# Altium schematic symbol library rcl_SMD.SchLib: 15 symbols
Pins are listed as number, name and electrical type; pins without a type are passive.

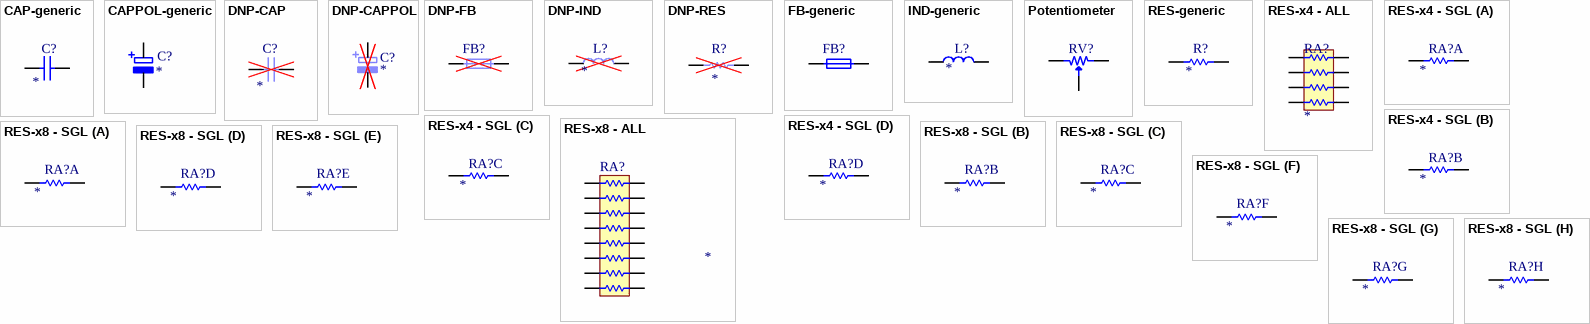
[diagram p0: symbols CAP-generic to RES-x8 - SGL]

## CAP-generic
designator C?
Chip Ceramic Capacitor SMD; Populated: Yes; Value: *; Manuf1: *; Manuf2: *; Manuf1Partnumber: *; Manuf2Partnumber: *; ClassName: *; ROHS: Yes; LifeCycle: Checked; HelpURL: *; Voltage: *
footprint CAPC1005X03N[0402] (Chip Resistor, 2-Leads, Body 1,00x0,50mm, IPC Medium Density)
footprint CAPC1608X05N[0603] (Chip Resistor, 2-Leads, Body 1,60x0,80mm, IPC Medium Density)
footprint CAPC2012X05N[0805] (Chip Resistor, 2-Leads, Body 2,00x1,25mm, IPC Medium Density)
footprint CAPC3216X06N[1206] (Chip Resistor, 2-Leads, Body 3,10x1,60mm, IPC Medium Density)
footprint CAPC3225X06N[1210] (Chip Resistor, 2-Leads, Body 3,10x2,60mm, IPC Medium Density)
footprint CAPC4532X06N[1812] (Chip Resistor, 2-Leads, Body 4,50x3,20mm, IPC Medium Density)
footprint 1812X7R
footprint C0201
footprint C0201_2
footprint C0402_2
footprint C0603_2
pins: 1, 2

## CAPPOL-generic
designator C?
Polarized Capacitor SMD; Populated: Yes; Value: *; Manuf1: *; Manuf2: *; Manuf1Partnumber: *; Manuf2Partnumber: *; ClassName: *; ROHS: Yes; LifeCycle: Checked; HelpURL: *; Voltage: *
footprint 140CLH-0810
footprint 140CLH-1010
footprint 140CLH-1014
footprint 150CLZ-0810
footprint 150CLZ-1010
footprint 150CLZ-1014
footprint 153CLV-0405
footprint 153CLV-0505
footprint 153CLV-0605
footprint 153CLV-0807
footprint 153CLV-0810
footprint 153CLV-1010
footprint 153CLV-1012
footprint 153CLV-1014
footprint 175TMP-0808
footprint 175TMP-0810
footprint A/3216-18R
footprint A/3216-18W
footprint B/3528-21R
footprint B/3528-21W
footprint C/6032-28R
footprint C/6032-28W
footprint CT3216
footprint CT3528
footprint CT6032
footprint CT7343
footprint D/7343-31R
footprint D/7343-31W
footprint E/7260-38R
footprint E/7260-38W
footprint PANASONIC_A
footprint PANASONIC_B
footprint PANASONIC_C
footprint PANASONIC_D
footprint PANASONIC_E
footprint PANASONIC_F
footprint PANASONIC_G
footprint SANYO-OSCON_SMD_A5
footprint SANYO-OSCON_SMD_B6
footprint SANYO-OSCON_SMD_C6
footprint SANYO-OSCON_SMD_E7
footprint SANYO-OSCON_SMD_E12
footprint SANYO-OSCON_SMD_F8
footprint SANYO-OSCON_SMD_F12
footprint SMC_A
footprint SMC_B
footprint SMC_C
footprint SMC_D
footprint SMC_E
footprint SMC_P
footprint SMC_Z
footprint UD-4X5,8_NICHICON
footprint UD-5X5,8_NICHICON
footprint UD-6,3X5,8_NICHICON
footprint UD-6,3X5,8_NICHICON
footprint UD-6,3X7,7_NICHICON
footprint UD-8X10_NICHICON
footprint UD-10X10_NICHICON
footprint R/2012-12R
footprint R/2012-12W
footprint SMD_M1 (Molded Capacitor, 2-Leads, Body 1,60x0,80mm, IPC Medium Density)
footprint SMD_M2 (Chip Cpacitor 2-Leads, Body 1,60x0,80mm, IPC Medium Density)
footprint CAP_TAN_A1206
footprint CAP_TAN_B1210
footprint CAP_TAN_D2917
footprint CAP_TAN_P0805
footprint CAP ALUM 6.6MM (Aluminum Electrolytic Capacitor, Body 6.60x6.60x7.70mm, IPC Low Density)
footprint CAP ALUM 8.3MM (Aluminum Electrolytic Capacitor, Body 8.30x8.30x10.50mm, IPC Low Density)
footprint CAP ALUM 10.3MM (Aluminum Electrolytic Capacitor, Body 10.30x10.30x10.50mm, IPC Low Density)
footprint CAPAE7266X55M (Aluminum Electrolytic Capacitor, Body 6,60x6,60x5,50mm, IPC Low Density)
footprint CAPAE7366X80M (Aluminum Electrolytic Capacitor, Body 6,60x6,60x8,00mm, IPC Low Density)
footprint R/2012 (R/2012 - 0805 (2012 métrico) 0.079" L x 0.049" A (2.00 mm x 1.25 mm))
footprint S/3216
footprint T/3528
footprint V/7343
footprint W/7343
footprint X/7343
footprint 6.3D_8A (Aluminum Electrolytic Capacitor, Body 6.60x6.60x8.00mm, IPC Low Density)
footprint CAPCP3217X160N (Chip Capacitor, Polarized, Body 3.2x1.6mm, IPC Medium Density)
footprint CAPMP3216X180N (Capacitor, Polarized, Molded  Body 3.2x1.6mm, IPC Medium Density)
footprint CAPMP3528X120N (Capacitor, Polarized, Molded  Body 3.5x2.8mm, IPC Medium Density)
footprint CAPMP3528X210N (Capacitor, Polarized, Molded  Body 3.5x2.8mm, IPC Medium Density)
footprint CAPMP6032X280N (Capacitor, Polarized, Molded  Body 6.0x3.2mm, IPC Medium Density)
footprint CAPMP7343X190N (Capacitor, Polarized, Molded  Body 7.3x4.3mm, IPC Medium Density)
footprint CAPMP7343X200N (Capacitor, Polarized, Molded  Body 7.3x4.3mm, IPC Medium Density)
footprint CAPMP7343X310N (Capacitor, Polarized, Molded  Body 7.3x4.3mm, IPC Medium Density)
footprint CAPMP7343X430N (Capacitor, Polarized, Molded  Body 7.3x4.3mm, IPC Medium Density)
footprint CAPMP7362X380N (Molded Capacitor, 2-Leads, Body 7.3x6.2mm, IPC Medium Density)
footprint CAPAE430X540N (Capacitor, Aluminium Electrolytric, 4.3mm L X 4.3mm W X 5.4mm H, IPC Medium Density)
footprint CAPAE530X540N (Capacitor, Aluminium Electrolytric, 5.3mm L X 5.3mm W X 5.4mm H, IPC Medium Density)
footprint CAPAE660X540N (Capacitor, Aluminium Electrolytric, 6.6mm L X 6.6mm W X 5.4mm H, IPC Medium Density)
footprint CAPAE680X800N (Capacitor, Aluminium Electrolytric, 6.8mm L X 6.8mm W X 8mm H, IPC Medium Density)
footprint CAPAE830X620N (Capacitor, Aluminium Electrolytric, 8.3mm L X 8.3mm W X 6.2mm H, IPC Medium Density)
footprint CAPAE830X1020N (Capacitor, Aluminium Electrolytric, 8.3mm L X 8.3mm W X 10.2mm H, IPC Medium Density)
footprint CAPAE1030X1020N (Capacitor, Aluminium Electrolytric, 10.3mm L X 10.3mm W X 10.2mm H, IPC Medium Density)
footprint CAPAE1700X1680N (Capacitor,Aluminum Electrolytic; 17.00mm L X 17.00mm W X 16.80mm H , IPC Medium Density)
footprint CAPAE1900X1680N (Capacitor,Aluminum Electrolytic; 19.00mm L X 19.00mm W X 16.80mm H , IPC Medium Density)
footprint 2824
pins: +, -

## DNP-CAP
designator C?
(DNP) "Do Not Populate" Chip Ceramic Capacitor SMD; Populated: No; Value: *; Manuf1: *; Manuf2: *; Manuf1Partnumber: *; Manuf2Partnumber: *; ClassName: *; ROHS: Yes; LifeCycle: Checked; HelpURL: *; Voltage: *
footprint CAPC1005X03N[0402] (Chip Resistor, 2-Leads, Body 1,00x0,50mm, IPC Medium Density)
footprint CAPC1608X05N[0603] (Chip Resistor, 2-Leads, Body 1,60x0,80mm, IPC Medium Density)
footprint CAPC2012X05N[0805] (Chip Resistor, 2-Leads, Body 2,00x1,25mm, IPC Medium Density)
footprint CAPC3216X06N[1206] (Chip Resistor, 2-Leads, Body 3,10x1,60mm, IPC Medium Density)
footprint CAPC3225X06N[1210] (Chip Resistor, 2-Leads, Body 3,10x2,60mm, IPC Medium Density)
footprint CAPC4532X06N[1812] (Chip Resistor, 2-Leads, Body 4,50x3,20mm, IPC Medium Density)
pins: 1, 2

## DNP-CAPPOL
designator C?
(DNP) "Do Not Populate"  Polarized Capacitor SMD; Populated: No; Value: *; Manuf1: *; Manuf2: *; Manuf1Partnumber: *; Manuf2Partnumber: *; ClassName: *; ROHS: Yes; LifeCycle: Checked; HelpURL: *; Voltage: *
footprint 140CLH-0810
footprint 140CLH-1010
footprint 140CLH-1014
footprint 150CLZ-0810
footprint 150CLZ-1010
footprint 150CLZ-1014
footprint 153CLV-0405
footprint 153CLV-0505
footprint 153CLV-0605
footprint 153CLV-0807
footprint 153CLV-0810
footprint 153CLV-1010
footprint 153CLV-1012
footprint 153CLV-1014
footprint 175TMP-0808
footprint 175TMP-0810
footprint A/3216-18R
footprint A/3216-18W
footprint B/3528-21R
footprint B/3528-21W
footprint C/6032-28R
footprint C/6032-28W
footprint CT3216
footprint CT3528
footprint CT6032
footprint CT7343
footprint D/7343-31R
footprint D/7343-31W
footprint E/7260-38R
footprint E/7260-38W
footprint PANASONIC_A
footprint PANASONIC_B
footprint PANASONIC_C
footprint PANASONIC_D
footprint PANASONIC_E
footprint PANASONIC_F
footprint PANASONIC_G
footprint SANYO-OSCON_SMD_A5
footprint SANYO-OSCON_SMD_B6
footprint SANYO-OSCON_SMD_C6
footprint SANYO-OSCON_SMD_E7
footprint SANYO-OSCON_SMD_E12
footprint SANYO-OSCON_SMD_F8
footprint SANYO-OSCON_SMD_F12
footprint SMC_A
footprint SMC_B
footprint SMC_C
footprint SMC_D
footprint SMC_E
footprint SMC_P
footprint SMC_Z
footprint UD-4X5,8_NICHICON
footprint UD-5X5,8_NICHICON
footprint UD-6,3X5,8_NICHICON
footprint UD-6,3X5,8_NICHICON
footprint UD-6,3X7,7_NICHICON
footprint UD-8X10_NICHICON
footprint UD-10X10_NICHICON
signal-integrity model Model Name (Model Description)
pins: +, -

## DNP-FB
designator FB?
(DNP) "Do Not Populate"  Ferrite bead; Populated: No; ROHS: Yes; LifeCycle: Checked
footprint INDC1005X03N[0402] (Chip Inductor, 2-Leads, Body 1,00x0,50mm, IPC Medium Density)
footprint INDC1608X05N[0603] (Chip Inductor, 2-Leads, Body 1,60x0,80mm, IPC Medium Density)
footprint INDC3216X06N[1206] (Chip Inductor, 2-Leads, Body 3,10x1,60mm, IPC Medium Density)
footprint INDC2012X05N[0805] (Chip Inductor, 2-Leads, Body 2,00x1,25mm, IPC Medium Density)
pins: 1, 2

## DNP-IND
designator L?
(DNP) "Do Not Populate" Chip Inductor SMD; Populated: No; Value: *; Manuf1: *; Manuf2: *; Manuf1Partnumber: *; Manuf2Partnumber: *; ClassName: *; ROHS: Yes; LifeCycle: Checked; HelpURL: *; Current: *
footprint INDC1005X03N[0402] (Chip Inductor, 2-Leads, Body 1,00x0,50mm, IPC Medium Density)
footprint INDC1210X06N[0504] (Chip Inductor, 2-Leads, Body 1,20x1,00mm, IPC Medium Density)
footprint INDC1608X05N[0603] (Chip Inductor, 2-Leads, Body 1,60x0,80mm, IPC Medium Density)
footprint INDC2012X05N[0805] (Chip Inductor, 2-Leads, Body 2,00x1,25mm, IPC Medium Density)
footprint INDC3216X06N[1206] (Chip Inductor, 2-Leads, Body 3,10x1,60mm, IPC Medium Density)
footprint INDC3225X06N[1210] (Chip Inductor, 2-Leads, Body 3,10x2,60mm, IPC Medium Density)
pins: 1, 2

## DNP-RES
designator R?
(DNP) "Do Not Populate" Chip Resistor SMD; Populated: No; Value: *; Manuf1: *; Manuf2: *; Manuf1Partnumber: *; Manuf2Partnumber: *; ClassName: *; ROHS: Yes; LifeCycle: Checked; HelpURL: *; Power: *; Tolerance: *
footprint RESC1005X03N[0402] (Chip Resistor, 2-Leads, Body 1,00x0,50mm, IPC Medium Density)
footprint RESC1608X05N[0603] (Chip Resistor, 2-Leads, Body 1,60x0,80mm, IPC Medium Density)
footprint RESC2012X05N[0805] (Chip Resistor, 2-Leads, Body 2,00x1,25mm, IPC Medium Density)
footprint RESC3216X06N[1206] (Chip Resistor, 2-Leads, Body 3,10x1,60mm, IPC Medium Density)
footprint RESC3225X06N[1210] (Chip Resistor, 2-Leads, Body 3,10x2,60mm, IPC Medium Density)
footprint RESC4532X06N[1812] (Chip Resistor, 2-Leads, Body 4,50x3,20mm, IPC Medium Density)
footprint RESC5025X06N[2010] (Chip Resistor, 2-Leads, Body 5,00x2,50mm, IPC Medium Density)
footprint RESC6432X06N[2512] (Chip Resistor, 2-Leads, Body 6,35x3,20mm, IPC Medium Density)
pins: 1, 2

## FB-generic
designator FB?
Ferrite bead; Populated: Yes; ROHS: Yes; LifeCycle: Checked
footprint INDC1005X03N[0402] (Chip Inductor, 2-Leads, Body 1,00x0,50mm, IPC Medium Density)
footprint INDC1608X05N[0603] (Chip Inductor, 2-Leads, Body 1,60x0,80mm, IPC Medium Density)
footprint INDC3216X06N[1206] (Chip Inductor, 2-Leads, Body 3,10x1,60mm, IPC Medium Density)
footprint INDC2012X05N[0805] (Chip Inductor, 2-Leads, Body 2,00x1,25mm, IPC Medium Density)
footprint L0201
footprint L0201_2
footprint L0402_2
footprint L0603_2
pins: 1, 2

## IND-generic
designator L?
Chip Inductor SMD; Populated: Yes; Value: *; Manuf1: *; Manuf2: *; Manuf1Partnumber: *; Manuf2Partnumber: *; ClassName: *; ROHS: Yes; LifeCycle: Checked; HelpURL: *; Current: *
footprint INDC1005X03N[0402] (Chip Inductor, 2-Leads, Body 1,00x0,50mm, IPC Medium Density)
footprint INDC1210X06N[0504] (Chip Inductor, 2-Leads, Body 1,20x1,00mm, IPC Medium Density)
footprint INDC1608X05N[0603] (Chip Inductor, 2-Leads, Body 1,60x0,80mm, IPC Medium Density)
footprint INDC2012X05N[0805] (Chip Inductor, 2-Leads, Body 2,00x1,25mm, IPC Medium Density)
footprint INDC3216X06N[1206] (Chip Inductor, 2-Leads, Body 3,10x1,60mm, IPC Medium Density)
footprint INDC3225X06N[1210] (Chip Inductor, 2-Leads, Body 3,10x2,60mm, IPC Medium Density)
footprint IND_CD32
footprint IND1008[2520] (2520)
footprint L0201
footprint L0201_2
footprint L0402_2
footprint L0603_2
pins: 1, 2

## Potentiometer
designator RV?
Potentiometer(Variable Resistor); Populated: Yes; LifeCycle: Checked; ROHS: Yes
footprint POT Murata PVA2 (Murata PVA2 2.75mm x 2.20mm x 0.80mm)
footprint POT Panasonic EVM (Panasonic EVM3Y 3.45mm x 3.10mm x 1.55mm)
footprint POT PANASONIC EVM2W (Panasonic EVM2W 2.75mm x 2.20mm x 1.05mm)
footprint TRIM_BOURNS_3223W (Bourns 3223W Trimming Potentiometer)
footprint TRIM_BOURNS_3224G (Bourns 3224G Trimming Potentiometer)
footprint TRIM_BOURNS_3224J (Bourns 3224J Trimming Potentiometer)
footprint TRIM_BOURNS_3224W (Bourns 3224W Trimming Potentiometer)
footprint TRIM_BOURNS_3224X (Bourns 3224X Trimming Potentiometer)
footprint TRIM_BOURNS_3269W (Bourns 3314G-1 Bourns 3269W Trimming Potentiometer (Top Adjust))
footprint TRIM_BOURNS_3314G-1 (Bourns 3314G-1 Single Turn 4mm Square Trimpot® Trimming Potentiometer (Top Adjust))
footprint TRIM_BOURNS_3314G-2 (Bourns 3314G-1 Single Turn 4mm Square Trimpot® Trimming Potentiometer (Cross Slot, Top Adjust))
footprint TRIM_BOURNS_PVG5A (Bourns PVG5A Trimming Potentiometer)
footprint TRIM_VISHAY_TSM4YL (W 3.5 x L 4.8 x H 5.3mm Trimming Potentiometer Serie TSM4YL)
footprint TC33X-2-103E
pins: 1, 2, 3

## RES-generic
designator R?
Chip Resistor SMD; Populated: Yes; Value: *; Manuf1: *; Manuf2: *; Manuf1Partnumber: *; Manuf2Partnumber: *; ClassName: *; ROHS: Yes; LifeCycle: Checked; HelpURL: *; Power: *; Tolerance: *
footprint RESC1005X03N[0402] (Chip Resistor, 2-Leads, Body 1,00x0,50mm, IPC Medium Density)
footprint RESC1608X05N[0603] (Chip Resistor, 2-Leads, Body 1,60x0,80mm, IPC Medium Density)
footprint RESC2012X05N[0805] (Chip Resistor, 2-Leads, Body 2,00x1,25mm, IPC Medium Density)
footprint RESC3216X06N[1206] (Chip Resistor, 2-Leads, Body 3,10x1,60mm, IPC Medium Density)
footprint RESC3225X06N[1210] (Chip Resistor, 2-Leads, Body 3,10x2,60mm, IPC Medium Density)
footprint RESC4532X06N[1812] (Chip Resistor, 2-Leads, Body 4,50x3,20mm, IPC Medium Density)
footprint RESC5025X06N[2010] (Chip Resistor, 2-Leads, Body 5,00x2,50mm, IPC Medium Density)
footprint RESC6432X06N[2512] (Chip Resistor, 2-Leads, Body 6,35x3,20mm, IPC Medium Density)
footprint RES 0402/1005 (Chip Resistor, 2-Leads, Body 1.0x0.5mm, IPC Medium Density)
footprint RES 0402/1005 RF (Chip Resistor, 2-Leads, Body 1.0x0.5mm, IPC High Density)
footprint RES 0603/1608 RF (Chip Resistor, 2-Leads, Body 1.60x0.80mm, IPC High Density)
footprint RES 0805/2012 (Chip Resistor, 2-Leads, Body 2.00x1.25mm, IPC Medium Density)
footprint RES 0805/2012 RF (Chip Resistor, 2-Leads, Body 2.00x1.25mm, IPC High Density)
footprint RES 1206/3216 (Chip Resistor, 2-Leads, Body 3.13x1.55mm, IPC Medium Density)
footprint RES 1206/3216 RF (Chip Resistor, 2-Leads, Body 3.13x1.55mm, IPC High Density)
footprint RESC6865X10N[2725] (Chip Resistor, 2-Leads, Body 6,81x6,45mm, IPC Medium Density)
footprint RESMELF3614N (MELF Resistor, 2-Leads, Body 3.6x1.4mm, IPC Medium Density)
footprint RESMELF5721N (MELF Resistor, 2-Leads, Body 5.7x2.1mm, IPC Medium Density)
footprint R0201
footprint R0201_2
footprint R0402_2
footprint R0603_2
footprint 4527_PWR
footprint 3560 Series (Chip Resistor, 2-Leads, Body 11,60x6,85mm, IPC Medium Density)
footprint RES PWR 3540 (Chip Resistor, 2-Leads, Body 7,10x4,20mm, IPC Medium Density)
footprint RESC2012X05N[0805W]
pins: 1, 2

## RES-x4 - ALL
designator RA?
Resistor Array 4x SMD; Populated: Yes; Value: *; Manuf1: *; Manuf2: *; Manuf1Partnumber: *; Manuf2Partnumber: *; ClassName: *; ROHS: Yes; LifeCycle: Checked; HelpURL: *; Power: *; Tolerance: *
footprint RA-0804 (4 x 0402)-CT
footprint RA-0804 (4 x 0402)-CY
footprint RA-1206 (4 x 0603)-CT
footprint RA-1206 (4 x 0603)-CY
pins: 1, 2, 3, 4, 5, 6, 7, 8

## RES-x4 - SGL
designator RA?
Resistor Array 4x SMD; Populated: Yes; Value: *; Manuf1: *; Manuf2: *; Manuf1Partnumber: *; Manuf2Partnumber: *; ClassName: *; ROHS: Yes; LifeCycle: Checked; HelpURL: *; Power: *; Tolerance: *
footprint RA-0804 (4 x 0402)-CT
footprint RA-0804 (4 x 0402)-CY
footprint RA-1206 (4 x 0603)-CT
footprint RA-1206 (4 x 0603)-CY
part A pins: 1, 8
part B pins: 2, 7
part C pins: 3, 6
part D pins: 4, 5

## RES-x8 - ALL
designator RA?
Resistor Array 4x SMD; Populated: Yes; Value: *; Manuf1: *; Manuf2: *; Manuf1Partnumber: *; Manuf2Partnumber: *; ClassName: *; ROHS: Yes; LifeCycle: Checked; HelpURL: *; Power: *; Tolerance: *
footprint RA-1606 (8 x 0603)-CY
footprint RA-2516 (8 x 0603)-CT
pins: 1, 2, 3, 4, 5, 6, 7, 8, 9, 10, 11, 12, 13, 14, 15, 16

## RES-x8 - SGL
designator RA?
Resistor Array 4x SMD; Populated: Yes; Value: *; Manuf1: *; Manuf2: *; Manuf1Partnumber: *; Manuf2Partnumber: *; ClassName: *; ROHS: Yes; LifeCycle: Checked; HelpURL: *; Power: *; Tolerance: *
footprint RA-1606 (8 x 0603)-CY
footprint RA-2516 (8 x 0603)-CT
part A pins: 1, 16
part B pins: 2, 15
part C pins: 3, 14
part D pins: 4, 13
part E pins: 5, 12
part F pins: 6, 11
part G pins: 7, 10
part H pins: 8, 9